# Altium schematic symbol library MK66FX1M0VMD18.SchLib: 1 symbol
Pins are listed as number, name and electrical type; pins without a type are passive.

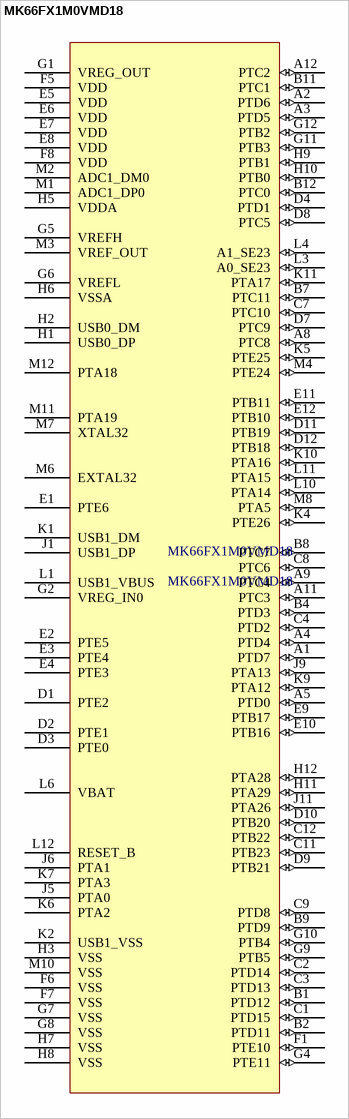
[diagram p0: symbol MK66FX1M0VMD18]

## MK66FX1M0VMD18
designator MK66FX1M0VMD18
Name: MK66FX1M0VMD18; Footprint: BGA_144-pin_1.0mmPitch
footprint BGA144C100P12X12_1300X1300X140 (BGA, 144-Leads, Body 13.00x13.00mmx1.40mm, Pitch 1.00mm)
pins: A1 PTD7 (io), A2 PTD6 (io), A3 PTD5 (io), A4 PTD4 (io), A5 PTD0 (io), A8 PTC8 (io), A9 PTC4 (io), A11 PTC3 (io), A12 PTC2 (io), B1 PTD12 (io), B2 PTD11 (io), B4 PTD3 (io), B7 PTC11 (io), B8 PTC7 (io), B9 PTD9 (io), B11 PTC1 (io), B12 PTC0 (io), C1 PTD15 (io), C2 PTD14 (io), C3 PTD13 (io), C4 PTD2 (io), C7 PTC10 (io), C8 PTC6 (io), C9 PTD8 (io), C11 PTB23 (io), C12 PTB22 (io), D1 PTE2, D2 PTE1, D3 PTE0, D4 PTD1 (io), D7 PTC9 (io), D8 PTC5 (io), D9 PTB21 (io), D10 PTB20 (io), D11 PTB19 (io), D12 PTB18 (io), E1 PTE6, E2 PTE5, E3 PTE4, E4 PTE3, E5 VDD (power), E6 VDD (power), E7 VDD (power), E8 VDD (power), E9 PTB17 (io), E10 PTB16 (io), E11 PTB11 (io), E12 PTB10 (io), F1 PTE10 (io), F5 VDD (power), F6 VSS (power), F7 VSS (power), F8 VDD (power), G1 VREG_OUT (power), G2 VREG_IN0, G4 PTE11 (io), G5 VREFH, G6 VREFL, G7 VSS (power), G8 VSS (power), G9 PTB5 (io), G10 PTB4 (io), G11 PTB3 (io), G12 PTB2 (io), H1 USB0_DP, H2 USB0_DM, H3 VSS (power), H5 VDDA, H6 VSSA, H7 VSS (power), H8 VSS (power), H9 PTB1 (io), H10 PTB0 (io), H11 PTA29 (io), H12 PTA28 (io), J1 USB1_DP, J5 PTA0, J6 PTA1, J9 PTA13 (io), J11 PTA26 (io), K1 USB1_DM, K2 USB1_VSS (power), K4 PTE26 (io), K5 PTE25 (io), K6 PTA2, K7 PTA3, K9 PTA12 (io), K10 PTA16 (io), K11 PTA17 (io), L1 USB1_VBUS, L3 A0_SE23 (io), L4 A1_SE23 (io), L6 VBAT (power), L10 PTA14 (io), L11 PTA15 (io), L12 RESET_B, M1 ADC1_DP0, M2 ADC1_DM0, M3 VREF_OUT, M4 PTE24 (io), M6 EXTAL32, M7 XTAL32, M8 PTA5 (io), M10 VSS (power), M11 PTA19, M12 PTA18